# Altium integrated library 贴片.IntLib: 4 symbols
Pins are listed as number, name and electrical type; pins without a type are passive.

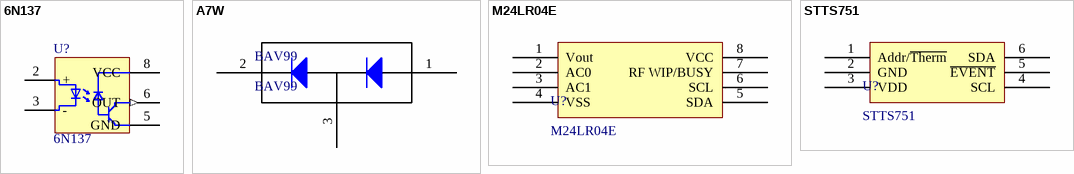
[diagram p0: symbols 6N137 to STTS751]

## 6N137
designator U?
footprint DIP8
pins: 2 +, 3 -, 5 GND (power), 6 OUT (out), 8 VCC (power)
2 alternate drawings of the same symbol

## A7W
designator BAV99, comment BAV99
pins: 1 A, 1 A, 1, 2 K, 2 K, 2, 3

## M24LR04E
designator U?
footprint SO8_L (Footprint not found)
footprint SO8_M (Footprint not found)
footprint SO8_N (Footprint not found)
pins: 1 Vout, 2 AC0, 3 AC1, 4 VSS, 5 SDA, 6 SCL, 7 RF WIP/BUSY, 8 VCC

## STTS751
designator U?
footprint SOT23-6_L (Footprint not found)
footprint SOT23-6_M (Footprint not found)
footprint SOT23-6_N (Footprint not found)
pins: 1 Addr/~{Therm}, 2 GND, 3 VDD, 4 SCL, 5 ~{EVENT}, 6 SDA